# EAGLE library part AD1934 (library cdp)
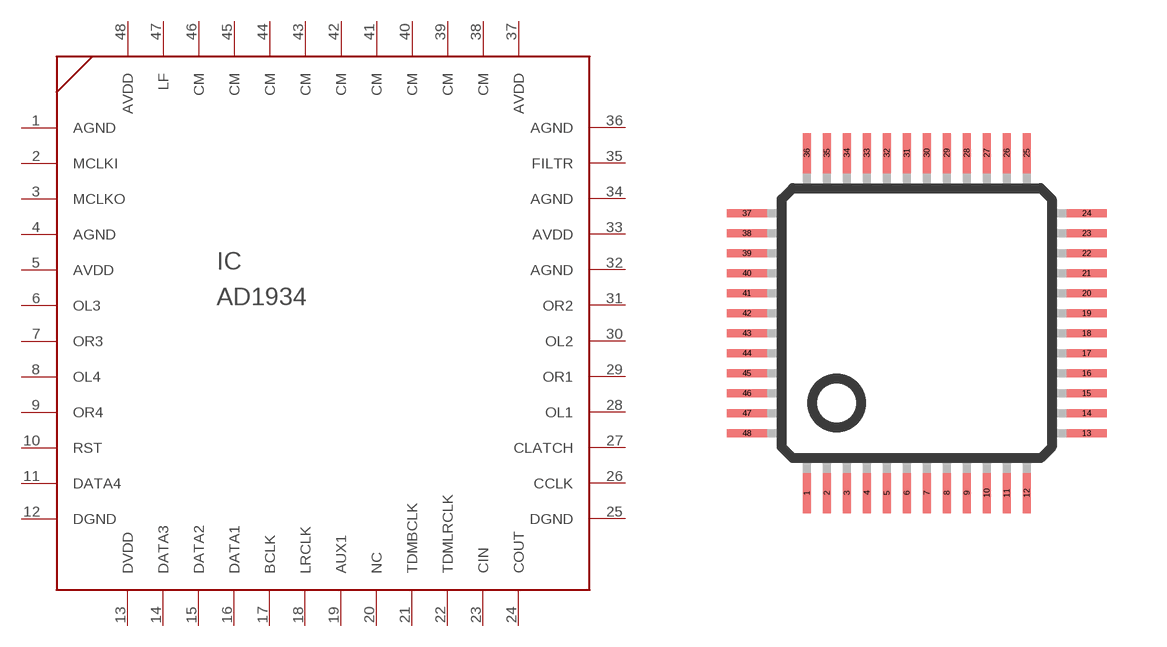
[diagram p0: symbol with the pads of LQFP48; footprint LQFP48]

Designator prefix IC

## AD1934YST  [LQFP48]
1  AGND  pwr
2  MCLKI  in
3  MCLKO  out
4  AGND  pwr
5  AVDD  pwr
6  OL3  out
7  OR3  out
8  OL4  out
9  OR4  out
10  RST  in
11  DATA4  in
12  DGND  pwr
13  DVDD  pwr
14  DATA3  in
15  DATA2  in
16  DATA1  in
17  BCLK  in
18  LRCLK  in
19  AUX1  out
20  NC  nc
21  TDMBCLK  in
22  TDMLRCLK  in
23  CIN  in
24  COUT  out
25  DGND  pwr
26  CCLK  in
27  CLATCH  in
28  OL1  out
29  OR1  out
30  OL2  out
31  OR2  out
32  AGND  pwr
33  AVDD  pwr
34  AGND  pwr
35  FILTR  in
36  AGND  pwr
37  AVDD  pwr
38  CM
39  CM
40  CM
41  CM
42  CM
43  CM
44  CM
45  CM
46  CM
47  LF  pas
48  AVDD  pwr

## Footprint LQFP48 (pad centres in mm)
48-pin plastic LQFP (FPT-48P-M26) www.fma.fujitsu.com/pdf/e713717.pdf
smd 0.2 x 1: 1 -2.75,-4.25; 2 -2.25,-4.25; 3 -1.75,-4.25; 4 -1.25,-4.25; 5 -0.75,-4.25; 6 -0.25,-4.25; 7 0.25,-4.25; 8 0.75,-4.25; 9 1.25,-4.25; 10 1.75,-4.25; 11 2.25,-4.25; 12 2.75,-4.25; 25 2.75,4.25; 26 2.25,4.25; 27 1.75,4.25; 28 1.25,4.25; 29 0.75,4.25; 30 0.25,4.25; 31 -0.25,4.25; 32 -0.75,4.25; 33 -1.25,4.25; 34 -1.75,4.25; 35 -2.25,4.25; 36 -2.75,4.25
smd 1 x 0.2: 13 4.25,-2.75; 14 4.25,-2.25; 15 4.25,-1.75; 16 4.25,-1.25; 17 4.25,-0.75; 18 4.25,-0.25; 19 4.25,0.25; 20 4.25,0.75; 21 4.25,1.25; 22 4.25,1.75; 23 4.25,2.25; 24 4.25,2.75; 37 -4.25,2.75; 38 -4.25,2.25; 39 -4.25,1.75; 40 -4.25,1.25; 41 -4.25,0.75; 42 -4.25,0.25; 43 -4.25,-0.25; 44 -4.25,-0.75; 45 -4.25,-1.25; 46 -4.25,-1.75; 47 -4.25,-2.25; 48 -4.25,-2.75